# Altium integrated library ECEN5730Lib_Manual_2021_08.IntLib: 58 symbols
Pins are listed as number, name and electrical type; pins without a type are passive.

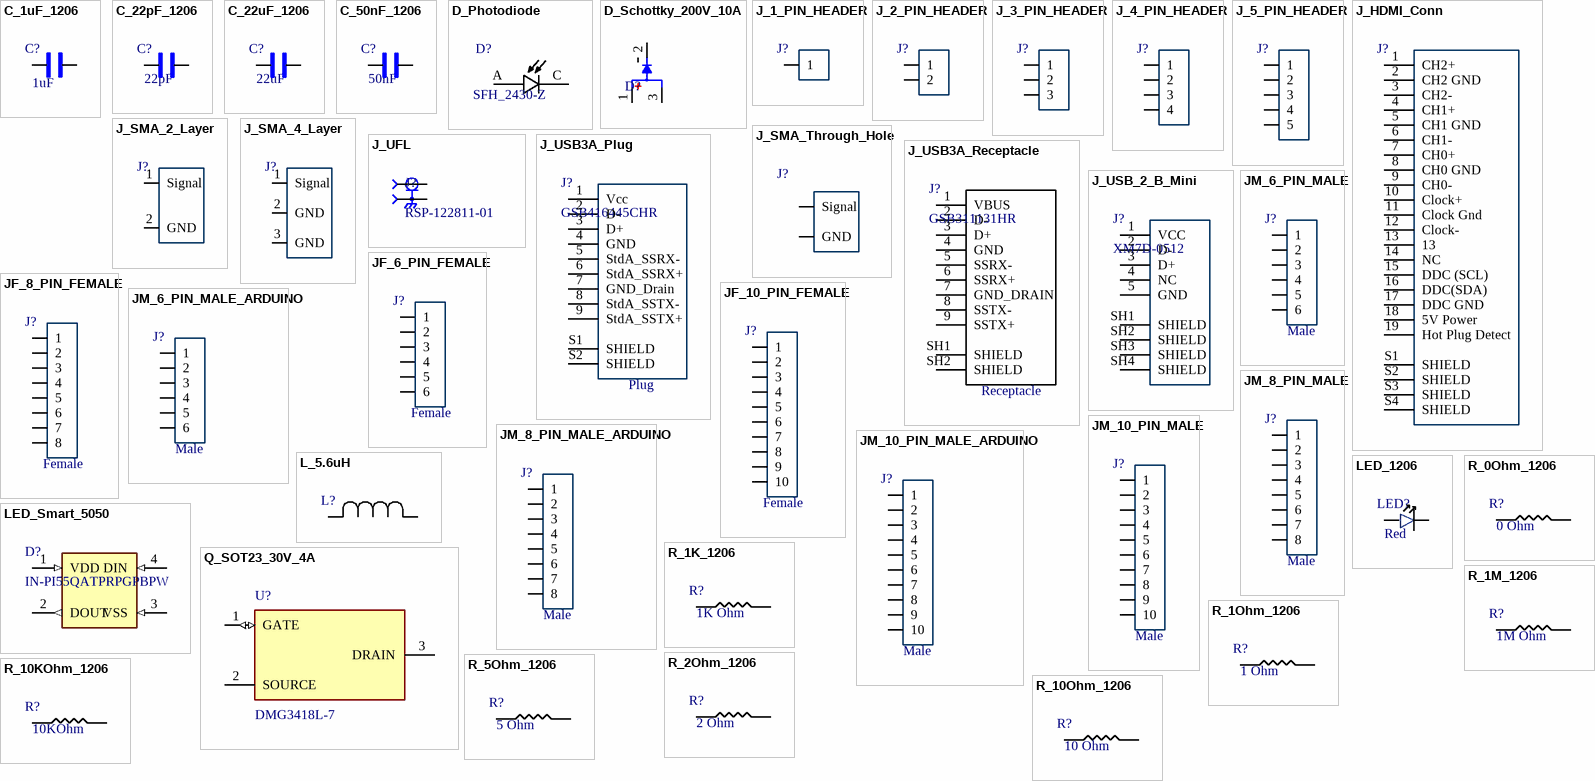
[diagram p0: symbols C_1uF_1206 to R_10Ohm_1206]

## C_1uF_1206
designator C?, comment 1uF
1µF ±20% 16V Ceramic Capacitor X7R 1206 (3216 Metric); MFR Part #: CL31B105KBHNNNE; Type: Basic; Digikey Link: https://www.digikey.com/product-detail/en/C1206C105M4RACTU/399-8150-1-ND/3471873/?itemSeq=304982366; Digikey Part: 399-8150-1-ND; Value: 1uF
footprint 1206_Passive_Capacitor
pins: 1, 2

## C_22pF_1206
designator C?, comment 22pF
22pF ±5% 16V Ceramic Capacitor C0G, NP0 1206 (3216 Metric); MFR.Part #: 1206CG220J102NT; Digikey Link: https://www.digikey.com/product-detail/en/885012008011/732-7867-1-ND/5454494/?itemSeq=304982362; Digikey Part: 732-7867-1-ND; Value: 22pF
footprint 1206_Passive_Capacitor
pins: 1, 2

## C_22uF_1206
designator C?, comment 22uF
22µF ±20% 16V Ceramic Capacitor X5R 1206 (3216 Metric); MFR Part #: CL31A226KPHNNNE; Type: Extended; Digikey Link: https://www.digikey.com/product-detail/en/CL31A226MOCLNNC/1276-2728-1-ND/3890814/?itemSeq=304982363; Digikey Part: 1276-2728-1-ND; Value: 22uF
footprint 1206_Passive_Capacitor
pins: 1, 2

## C_50nF_1206
designator C?, comment 50nF
50nF ±5% 16V Ceramic Capacitor C0G, NP0 1206 (3216 Metric); Digikey Link: https://www.digikey.com/en/products/detail/avx-corporation/12065C503JAT2A/1604879; Digikey Part: 12065C503JAT2A; Value: 50nF
footprint 1206_Passive_Capacitor
pins: 1, 2

## D_Photodiode
designator D?, comment SFH_2430-Z
PHOTODIODE 570NM SMD SFH_2430-Z; MFR Part #: NA; MF: OSRAM Opto; Package: SMD-2 Osram Opto; Digi-Key_Purchase_URL: https://www.digikey.com/product-detail/en/osram-opto-semiconductors-inc/SFH-2430-Z/475-2579-1-ND/1228076?utm_source=snapeda&utm_medium=aggregator&utm_campaign=symbol; Digi-Key_Part_Number: 475-2579-1-ND; SnapEDA_Link: https://www.snapeda.com/parts/SFH%202430-Z/OSRAM%20Opto%20Semiconductors%20Inc./view-part/?ref=snap; Value: *
footprint Photodiode (*DIO_SFH_2430-Z_SFH_2430-Z)
pins: A, C

## D_Schottky_200V_10A
designator D?  (value not drawn)
Diode Schottky 200V 10A Surface Mount DPAK; MF: SMC Diode; MP: SBRD10200TR; Package: TO-252-3 SMC; Value: *; Price: None; SnapEDA_Link: https://www.snapeda.com/parts/SBRD10200TR/SMC%20Diode%20Solutions/view-part/702246/?ref=snap; Availability: Unavailable
footprint D_SMT_Schottky_200V_10A
pins: 1, 2, 3

## J_1_PIN_HEADER
designator J?
1 Position Header Connector 0.100" (2.54mm) Through Hole Tin
footprint 1_PIN_60mil_Dia
pins: 1

## J_2_PIN_HEADER
designator J?
2 Position Header Connector 0.100" (2.54mm) Through Hole Tin
footprint 2_PIN_100MIL
pins: 1, 2

## J_3_PIN_HEADER
designator J?
3 Position Header Connector 0.100" (2.54mm) Through Hole Tin
footprint 3_PIN_100mil
pins: 1, 2, 3

## J_4_PIN_HEADER
designator J?
4 Position Header Connector 0.100" (2.54mm) Through Hole Tin
footprint 4_PIN_100MIL
pins: 1, 2, 3, 4

## J_5_PIN_HEADER
designator J?
5 Position Header Connector 0.100" (2.54mm) Through Hole Tin
footprint 5_PIN_100MIL
pins: 1, 2, 3, 4, 5

## J_HDMI_Conn
designator J?  (value not drawn)
HDMI Connector | Right Angle | Without Flange | -20C to 85C; MF: Stewart Connector; MP: SS-53000-001; Digikey Link: https://www.digikey.com/en/products/detail/stewart-connector/SS-53000-001/10492172?s=N4IgTCBcDaIMpwLQFYDMAGTjMEYQF0BfIA; Package: None
footprint HDMI_Conn
pins: 1 CH2+, 2 CH2 GND, 3 CH2-, 4 CH1+, 5 CH1 GND, 6 CH1-, 7 CH0+, 8 CH0 GND, 9 CH0-, 10 Clock+, 11 Clock Gnd, 12 Clock-, 13, 14 NC, 15 DDC (SCL), 16 DDC(SDA), 17 DDC GND, 18 5V Power, 19 Hot Plug Detect, S1 SHIELD, S2 SHIELD, S3 SHIELD, S4 SHIELD

## J_SMA_2_Layer
designator J?, comment SMA Edge Launched  (value not drawn)
2 Layer SMA Connector Without Cutout Under Signal
footprint SMA_2_LAYER
pins: 1 Signal, 2 GND

## J_SMA_4_Layer
designator J?, comment SMA Cutout  (value not drawn)
4 Layer SMA Connector With Cutout Under Signal
footprint SMA_4_Layer
pins: 1 Signal, 2 GND, 3 GND

## J_SMA_Through_Hole
designator J?, comment 5-1814832-1  (value not drawn)
SMA Connector Jack, Female Socket 50Ohm Through Hole Solder; MFR Part #: BWSMA-KE-Z001 - NA; MF: TE Connectivity; TE_purchase_URL: https://www.te.com/usa-en/product-518148321.html?te_bu=Cor&te_type=disp&te_campaign=seda_glo_cor-seda-global-disp-prtnr-fy19-seda-model-bom-cta_sma-317_1&elqCampaignId=32493; SnapEDA_Link: https://www.snapeda.com/parts/518148321/TE%20Connectivity%20AMP%20Connectors/view-part/49083/?ref=snap; Availability: Unavailable; Price: None; Package: None; Value: *; LCSC Part#: C496549-DNP; Type: Extended
footprint SMA_THROUGH_HOLE (*TE_5-1814832-1)
pins: 1 Signal, 2 GND

## J_UFL
designator J?, comment RSP-122811-01
U.FL (UMCC), IPEX MHF1 Connector Receptacle, Male Pin 50Ohm Surface Mount Solder; MF: Samtec Inc.; Price: None; SnapEDA_Link: https://www.snapeda.com/parts/RSP-122811-01/Samtec%20Inc./view-part/1051901/?ref=snap; MP: RSP-122811-01; Value: *; Availability: Warning; Package: None; Purchase-URL: https://pricing.snapeda.com/search/part/RSP-122811-01/?ref=eda
footprint UFL_Connector
pins: 1, G1 GND, G2 GND

## J_USB3A_Plug
designator J?, comment GSB416445CHR  value Plug
USB-A _USB TYPE-A_ USB 3.1 _USB 3.1 Gen 2, Superspeed+_ Plug Connector 9 Position Surface Mount, Right Angle; Through Hole; MF: Amphenol ICC; MP: GSB416445CHR; Package: None; Price: None; SnapEDA_Link: https://www.snapeda.com/parts/GSB416445CHR/Amphenol%20FCI/view-part/104315/?ref=snap; Availability: Unavailable
footprint USB_3A_Plug
pins: 1 Vcc, 2 D-, 3 D+, 4 GND, 5 StdA_SSRX-, 6 StdA_SSRX+, 7 GND_Drain, 8 StdA_SSTX-, 9 StdA_SSTX+, S1 SHIELD, S2 SHIELD

## J_USB3A_Receptacle
designator J?, comment GSB311131HR  value Receptacle
USB-A _USB TYPE-A_ USB 3.0 _USB 3.1 Gen 1, Superspeed_ Receptacle Connector 9 Position Through Hole, Right Angle; MF: Amphenol ICC; Package: None; Digi-Key_Purchase_URL: https://www.digikey.ru/product-detail/en/amphenol-icc-commercial-products/GSB311131HR/GSB311131HR-ND/2187173?utm_source=snapeda&utm_medium=aggregator&utm_campaign=symbol; MP: GSB311131HR; SnapEDA_Link: https://www.snapeda.com/parts/GSB311131HR/Amphenol%20FCI/view-part/229215/?ref=snap; Digi-Key_Part_Number: GSB311131HR-ND
footprint USB_3A_Receptacle
pins: 1 VBUS, 2 D-, 3 D+, 4 GND, 5 SSRX-, 6 SSRX+, 7 GND_DRAIN, 8 SSTX-, 9 SSTX+, SH1 SHIELD, SH2 SHIELD

## J_USB_2_B_Mini
designator J?, comment XM7D-0512
USB - mini B USB 2.0 Receptacle Connector 5 Position Through Hole, Right Angle; Value: CONN RCPT USB2.0 MINI B 5P R/A; Digikey Link: https://www.digikey.com/product-detail/en/XM7D-0512/OR1205-ND/4695531/?itemSeq=304982356; Digikey Part: OR1205-ND
footprint USB_2
pins: 1 VCC, 2 D-, 3 D+, 4 NC, 5 GND, SH1 SHIELD, SH2 SHIELD, SH3 SHIELD, SH4 SHIELD

## JF_6_PIN_FEMALE
designator J?, comment value Female  (hidden comment: PPTC061LFBN-RC)
6 Position Header Connector 0.100" (2.54mm) Through Hole Tin; Digikey Link: https://www.digikey.com/product-detail/en/PPTC061LFBN-RC/S7004-ND/810145/?itemSeq=304982353; Digikey Part: S7004-ND; LCSC Part#: DNP
footprint 6_PIN_100MIL
pins: 1, 2, 3, 4, 5, 6

## JF_8_PIN_FEMALE
designator J?, comment value Female  (hidden comment: PPTC081LFBN-RC)
8 Position Header Connector 0.100" (2.54mm) Through Hole Tin; Digikey Link: https://www.digikey.com/product-detail/en/PPTC081LFBN-RC/S7006-ND/810147/?itemSeq=304982354; Digikey Part: S7006-ND; LCSC Part#: DNP
footprint 8_PIN_100MIL
pins: 1, 2, 3, 4, 5, 6, 7, 8

## JF_10_PIN_FEMALE
designator J?, comment value Female  (hidden comment: PPTC101LFBN-RC)
10 Position Header Connector 0.100" (2.54mm) Through Hole Tin; Digikey Link: https://www.digikey.com/product-detail/en/PPTC101LFBN-RC/S7008-ND/810149/?itemSeq=304982352; Digikey Part: S7008-ND; LCSC Part#: DNP
footprint 10_PIN_100MIL
pins: 1, 2, 3, 4, 5, 6, 7, 8, 9, 10

## JM_6_PIN_MALE
designator J?, comment value Male  (hidden comment: PPTC061LFBN-RC)
6 Position Header Connector 0.100" (2.54mm) Through Hole Tin; Digikey Link: https://www.digikey.com/product-detail/en/PPTC061LFBN-RC/S7004-ND/810145/?itemSeq=304982353; Digikey Part: S7004-ND; LCSC Part#: DNP
footprint 6_PIN_100MIL
pins: 1, 2, 3, 4, 5, 6

## JM_6_PIN_MALE_ARDUINO
designator J?, comment value Male  (hidden comment: PPTC061LFBN-RC)
6 Position Header Connector 0.100" (2.54mm) Through Hole Tin; Digikey Link: https://www.digikey.com/product-detail/en/PPTC061LFBN-RC/S7004-ND/810145/?itemSeq=304982353; Digikey Part: S7004-ND; LCSC Part#: DNP
footprint 6_PIN_ARDUINO_100mil
pins: 1, 2, 3, 4, 5, 6

## JM_8_PIN_MALE
designator J?, comment value Male  (hidden comment: PPTC081LFBN-RC)
8 Position Header Connector 0.100" (2.54mm) Through Hole Tin; Digikey Link: https://www.digikey.com/product-detail/en/PPTC081LFBN-RC/S7006-ND/810147/?itemSeq=304982354; Digikey Part: S7006-ND; LCSC Part#: DNP
footprint 8_PIN_100MIL
pins: 1, 2, 3, 4, 5, 6, 7, 8

## JM_8_PIN_MALE_ARDUINO
designator J?, comment value Male  (hidden comment: PPTC081LFBN-RC)
8 Position Header Connector 0.100" (2.54mm) Through Hole Tin; Digikey Link: https://www.digikey.com/product-detail/en/PPTC081LFBN-RC/S7006-ND/810147/?itemSeq=304982354; Digikey Part: S7006-ND; LCSC Part#: DNP
footprint 8_PIN_ARDUINO_100MIL
pins: 1, 2, 3, 4, 5, 6, 7, 8

## JM_10_PIN_MALE
designator J?, comment value Male  (hidden comment: PPTC101LFBN-RC)
10 Position Header Connector 0.100" (2.54mm) Through Hole Tin; Digikey Link: https://www.digikey.com/product-detail/en/PPTC101LFBN-RC/S7008-ND/810149/?itemSeq=304982352; Digikey Part: S7008-ND; LCSC Part#: DNP
footprint 10_PIN_100MIL
pins: 1, 2, 3, 4, 5, 6, 7, 8, 9, 10

## JM_10_PIN_MALE_ARDUINO
designator J?, comment value Male  (hidden comment: PPTC101LFBN-RC)
10 Position Header Connector 0.100" (2.54mm) Through Hole Tin; Digikey Link: https://www.digikey.com/product-detail/en/PPTC101LFBN-RC/S7008-ND/810149/?itemSeq=304982352; Digikey Part: S7008-ND; LCSC Part#: DNP
footprint 10_PIN_ARDUINO_100MIL
pins: 1, 2, 3, 4, 5, 6, 7, 8, 9, 10

## L_5.6uH
designator L?, comment IHLP3232DZER5R6M11  (value not drawn)
5.6uH; Vendor: VISHAY; Built_By: EMA_UL_Team; SourceLibrary: Vishay_2010-01-01_IND_IHLP; Type: DEV; Manufacturer_Part_Number: IHLP3232DZER5R6M11; Copyright: Copyright (C) 2018 Accelerated Designs. All rights reserved; RefDes: RefDes
footprint IND_IHLP-3232DZ
pins: 1, 2

## LED_1206
designator LED?, comment value Red  (hidden comment: LTST-C150CKT)
Red 638nm LED Indication - Discrete 1.8V 1206 (3216 Metric); Digikey Link: https://www.digikey.com/product-detail/en/LTST-C150CKT/160-1167-1-ND/269239/?itemSeq=304982368; Digikey Part: 160-1167-1-ND
footprint LED
pins: 1, 2

## LED_Smart_5050
designator D?, comment IN-PI55QATPRPGPBPW
Digital Series Cascade LED; DigiKey: https://www.digikey.com/product-detail/en/inolux/IN-PI55QATPRPGPBPW-60/1830-1209-1-ND/9681289; Parameter 1: *
footprint SERIAL_LED (Footprint for serial LED)
pins: 1 VDD (in), 2 DOUT (out) "Dout", 3 VSS (in), 4 DIN (in) "Din"

## Q_SOT23_30V_4A
designator U?, comment DMG3418L-7
MOSFET N-CH 30V 4A; SnapEDA_Link: https://www.snapeda.com/parts/DMG3418L-7/Diodes%20Inc./view-part/826750/?ref=snap; Value: *
footprint Q_SOT23_30V_4A
pins: 1 GATE (io), 2 SOURCE, 3 DRAIN

## R_0Ohm_1206
designator R?, comment value 0 Ohm  (hidden comment: 1M)
CHIP RESISTOR - SURFACE MOUNT 0OHMS ±1% 1/4W 1206 ROHS
footprint 1206_Passive_Resitor
pins: 1, 2

## R_1K_1206
designator R?, comment value 1K Ohm  (hidden comment: 1k)
1 kOhms ±1% 0.5W, 1/2W Chip Resistor 1206 (3216 Metric) Anti-Sulfur, Moisture Resistant Thin Film; MFR Part #: 1206W4F1001T5; Digikey Link: https://www.digikey.com/product-detail/en/RNCP1206FTD1K00/RNCP1206FTD1K00CT-ND/2240675/?itemSeq=304982373; Digikey Part: RNCP1206FTD1K00CT-ND
footprint 1206_Passive_Resitor
pins: 1, 2

## R_1M_1206
designator R?, comment value 1M Ohm  (hidden comment: 1M)
1 MOhms ±5% 0.25W, 1/4W Chip Resistor 1206 (3216 Metric) Automotive AEC-Q200 Thick Film; Digikey Link: https://www.digikey.com/product-detail/en/RMCF1206JT1M00/RMCF1206JT1M00CT-ND/1942830/?itemSeq=304982358; Digikey Part: Number RMCF1206JT1M00CT-ND
footprint 1206_Passive_Resitor
pins: 1, 2

## R_1Ohm_1206
designator R?, comment 1 Ohm
1 Ohms ±1% 0.5W, 1/2W Chip Resistor 1206 (3216 Metric) Anti-Sulfur, Moisture Resistant Thin Film; Digikey Link: https://www.digikey.com/product-detail/en/RNCP1206FTD1K00/RNCP1206FTD1K00CT-ND/2240675/?itemSeq=304982373; Digikey Part: RNCP1206FTD1K00CT-ND; Value: 1 Ohm
footprint 1206_Passive_Resitor
pins: 1, 2

## R_2Ohm_1206
designator R?, comment 2 Ohm
2 Ohms ±1% 0.5W, 1/2W Chip Resistor 1206 (3216 Metric) Anti-Sulfur, Moisture Resistant Thin Film; Value: 2 Ohm
footprint 1206_Passive_Resitor
pins: 1, 2

## R_5Ohm_1206
designator R?, comment 5 Ohm
5 Ohms ±1% 0.5W, 1/2W Chip Resistor 1206 (3216 Metric) Anti-Sulfur, Moisture Resistant Thin Film; Digikey Link: https://www.digikey.com/product-detail/en/RNCP1206FTD1K00/RNCP1206FTD1K00CT-ND/2240675/?itemSeq=304982373; Digikey Part: RNCP1206FTD1K00CT-ND; Value: 5 Ohm
footprint 1206_Passive_Resitor
pins: 1, 2

## R_10KOhm_1206
designator R?, comment value 10KOhm  (hidden comment: 10k)
10 kOhms ±5% 0.25W, 1/4W Chip Resistor 1206 (3216 Metric) Automotive AEC-Q200 Thick Film; Digikey Link: https://www.digikey.com/product-detail/en/RMCF1206JT300R/RMCF1206JT300RCT-ND/1942776/?itemSeq=304982374; Digikey Part: RMCF1206JT300RCT-ND
footprint 1206_Passive_Resitor
pins: 1, 2

## R_10Ohm_1206
designator R?, comment 10 Ohm
10 Ohms ±1% 0.5W, 1/2W Chip Resistor 1206 (3216 Metric) Anti-Sulfur, Moisture Resistant Thin Film; MFR Part #: 1206W4F100JT5E; Datasheet: https://datasheet.lcsc.com/szlcsc/Uniroyal-Elec-1206W4F100JT5E_C17903.pdf; Value: 10 Ohm
footprint 1206_Passive_Resitor
pins: 1, 2

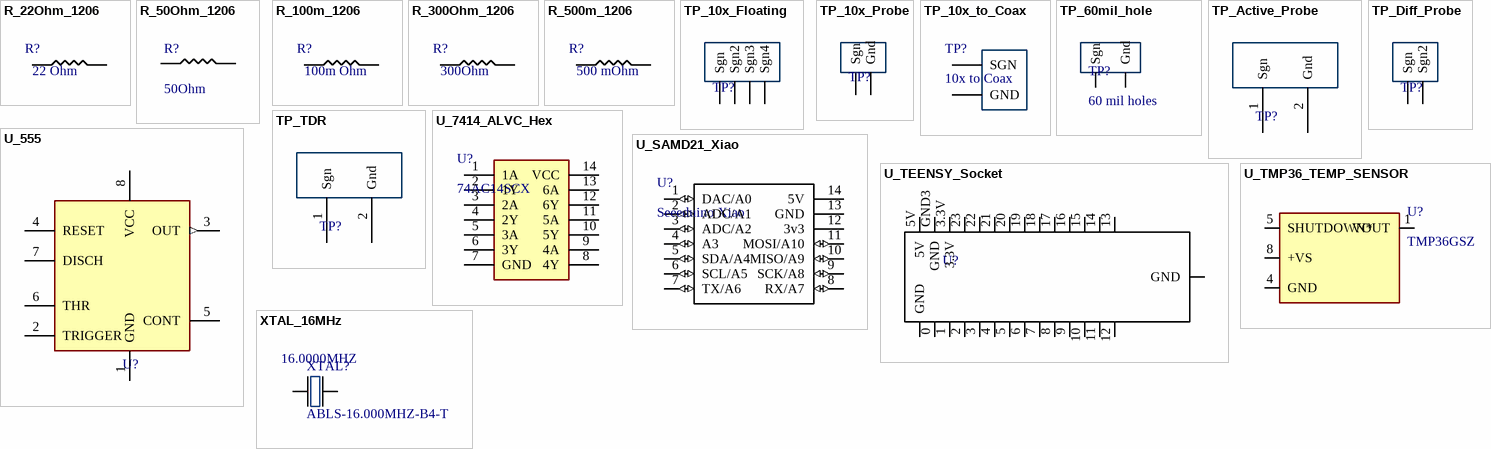
[diagram p1: symbols R_22Ohm_1206 to XTAL_16MHz]

## R_22Ohm_1206
designator R?, comment value 22 Ohm  (hidden comment: 22Ohm)
22 Ohms ±5% 0.5W, 1/2W Chip Resistor 1206 (3216 Metric) Automotive AEC-Q200, Pulse Withstanding Thick Film; MFR Part #: 1206W4F220JT5E
footprint 1206_Passive_Resitor
pins: 1, 2

## R_50Ohm_1206
designator R?, comment value 50Ohm  (hidden comment: 50)
50 Ohms ±5% 0.25W, 1/4W Chip Resistor 1206 (3216 Metric) Automotive AEC-Q200 Thick Film; Digikey Link: https://www.digikey.com/product-detail/en/RMCF1206JT300R/RMCF1206JT300RCT-ND/1942776/?itemSeq=304982374; Digikey Part: RMCF1206JT300RCT-ND
footprint 1206_Passive_Resitor
pins: 1, 2

## R_100m_1206
designator R?, comment value 100m Ohm  (hidden comment: 100m)
100 mOhms ±1% 0.5W, 1/2W Chip Resistor 1206 (3216 Metric) Anti-Sulfur, Moisture Resistant Thin Film; MFR Part #: 1206W4F100LT5E; Digikey Link: https://www.digikey.com/product-detail/en/RNCP1206FTD1K00/RNCP1206FTD1K00CT-ND/2240675/?itemSeq=304982373; Digikey Part: RNCP1206FTD1K00CT-ND
footprint 1206_Passive_Resitor
pins: 1, 2

## R_300Ohm_1206
designator R?, comment value 300Ohm  (hidden comment: 300)
300 Ohms ±5% 0.25W, 1/4W Chip Resistor 1206 (3216 Metric) Automotive AEC-Q200 Thick Film; MFR Part #: 1206W4F3000T5E; Datasheet: https://datasheet.lcsc.com/szlcsc/Uniroyal-Elec-1206W4F3000T5E_C17887.pdf
footprint 1206_Passive_Resitor
pins: 1, 2

## R_500m_1206
designator R?, comment value 500 mOhm  (hidden comment: 500m)
CHIP RESISTOR - SURFACE MOUNT 10.5OHMS ±1% 1/4W 1206 ROHS; MFR Part #: 1206W4F105JT5E; Datasheet: https://datasheet.lcsc.com/szlcsc/SUP-MRMF3216-1206-LR005FTN_C76290.pdf
footprint 1206_Passive_Resitor
pins: 1, 2

## TP_10x_Floating
designator TP?, comment 10x Probe Floating TP  (value not drawn)
Test Point 300 mil centers
footprint TP10x_Floating (Small Probs footprint)
pins: 1 Sgn, 2 Sgn2, 3 Sgn3, 4 Sgn4

## TP_10x_Probe
designator TP?, comment 10x Probe TP  (value not drawn)
Test Point 300 mil centers
footprint TP10x_Probe (Small Probs footprint)
pins: 1 Sgn, 2 Gnd

## TP_10x_to_Coax
designator TP?, comment 10x to Coax
On Board 10x Probe to Coax Cable Adapter
footprint TP10x_to_Coax
pins: 1 SGN, 2 (power), 3 (power), 4 (power), 5 GND (power)

## TP_60mil_hole
designator TP?, comment 60 mil holes
Test Points Adjusted to Hold SMA Connectors
footprint TEST_PINS
pins: 1 Sgn, 2 Gnd

## TP_Active_Probe
designator TP?  (value not drawn)
Active Probe Test Point footprint
footprint Active_Probe
pins: 1 Sgn, 2 Gnd

## TP_Diff_Probe
designator TP?, comment 10x Probe TP  (value not drawn)
Test Point 300 mil centers
footprint TP_Diff_Probe
pins: 1 Sgn, 2 Sgn2

## TP_TDR
designator TP?, comment TDR_Test  (value not drawn)
Small Pad Holes for the TDR Probes
footprint TDR_Probe
pins: 1 Sgn, 2 Gnd

## U_555
designator U?  (value not drawn)
555 Type, Timer/Oscillator _Single_ IC 3MHz 8-SO; Package: SOIC-8; DigiKey-Purchase-URL: https://www.digikey.com/product-detail/en/texas-instruments/LMC555CMX-NOPB/LMC555CMX-NOPBCT-ND/1010550
footprint TS555IDTTR (IC OSC Single Timer 2.7MHz 8SOIC)
pins: 1 GND (power), 2 TRIGGER, 3 OUT (out), 4 RESET, 5 CONT, 6 THR, 7 DISCH, 8 VCC (power)

## U_7414_ALVC_Hex
designator U?, comment 74AC14SCX
Inverter IC 6 Channel Schmitt Trigger 14-SOIC; Datasheet: https://datasheet.lcsc.com/szlcsc/ON-Semicon-ON-74AC14SCX_C5482.pdf; MFR Part #: 74AC14SCX
footprint HEX_74LVT14D
pins: 1 1A, 2 1Y, 3 2A, 4 2Y, 5 3A, 6 3Y, 7 GND, 8 4Y, 9 4A, 10 5Y, 11 5A, 12 6Y, 13 6A, 14 VCC

## U_SAMD21_Xiao
designator U?, comment Seeeduino Xiao
Seeeduino XIAO - Arduino Microcontroller - SAMD21 Cortex M0+; Link: https://www.seeedstudio.com/Seeeduino-XIAO-Arduino-Microcontroller-SAMD21-Cortex-M0+-p-4426.html
footprint SAMD21_Xiao
pins: 1 DAC/A0 (io), 2 ADC/A1 (io), 3 ADC/A2 (io), 4 A3 (io), 5 SDA/A4 (io), 6 SCL/A5 (io), 7 TX/A6 (io), 8 RX/A7 (io), 9 SCK/A8 (io), 10 MISO/A9 (io), 11 MOSI/A10 (io), 12 3v3 (power), 13 GND (power), 14 5V (power)

## U_TEENSY_Socket
designator U?  (value not drawn)
Teensy 4.0 ARM Cortex; Datasheet: https://www.pjrc.com/store/teensy40.html
footprint TEENSY_Socket
pins: 0 D, 1 D, 2 D, 3 D, 3.3V, 4 D, 5 D, 5V (power), 6 D, 7 D, 8 B, 9 B, 10 B, 11 B, 12 B, 13 B, 14 C, 15 C, 16 C, 17 C, 18 C, 19 C, 20, 21, 22, 23, GND1 GND (power), GND2 GND (power), GND3 GND (power)

## U_TMP36_TEMP_SENSOR
designator U?, comment TMP36GSZ
Temperature Sensor Analog, Local -40°C ~ 125°C 10mV/°C 8-SOIC; Value: SENSOR ANALOG -40C-125C 8SOIC; Digikey Link: https://www.digikey.com/product-detail/en/analog-devices-inc/TMP36GSZ/TMP36GSZ-ND/820403; Digikey Part: TMP36GSZ-ND
footprint TEMP_SENSOR
pins: 1 VOUT, 2 NC_2 hidden, 3 NC_3 hidden, 4 GND, 5 SHUTDOWN*, 6 NC_4 hidden, 7 NC hidden, 8 +VS

## XTAL_16MHz
designator XTAL?, comment ABLS-16.000MHZ-B4-T  value 16.0000MHZ
16MHz ±30ppm Crystal 18pF 40 Ohms HC-49/US. Use for ECEN 4/5730 Arduino; Digikey Link: https://www.digikey.com/product-detail/en/ABLS-16.000MHZ-B4-T/535-10226-1-ND/2184261/?itemSeq=304982364; Digikey Part: 535-10226-1-ND; JLC Part Number: *
footprint Crystal
pins: 1, 2